# Altium schematic symbol library SMD Electrolytic Aluminum capacitors.SchLib: 2 symbols
Pins are listed as number, name and electrical type; pins without a type are passive.

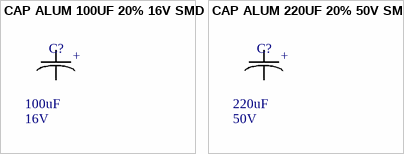
[diagram p0: symbols CAP ALUM 100UF 20% 16V SMD to CAP ALUM 220UF 20% 50V SMD]

## CAP ALUM 100UF 20% 16V SMD
designator C?  value 100uF  Voltage: 16V  (hidden comment: CAP ALUM 100UF 20% 16V SMD)
footprint CAP_ELEC_6.3x4.2 (Capacitor, polarized, aluminum can; 6.3x4.2mm DxH)
pins: 1 +, 2 -

## CAP ALUM 220UF 20% 50V SMD
designator C?  value 220uF  Voltage: 50V  (hidden comment: CAP ALUM 220UF 20% 50V SMD)
Supplier 1: Digi-Key; Supplier 2: Digi-Key; Supplier 3: Digi-Key; Supplier Part Number 1: 493-6390-6-ND; Supplier Part Number 2: 399-6732-1-ND; Supplier Part Number 3: 399-6681-1-ND
footprint CAP_ELEC_SIZE_G (Capacitor, polarized, aluminum can; 10.0x10.2mm DxH)
pins: 1 +, 2 -